# Altium schematic symbol library SCH - LOGIC - 74LVC1G332DCKRE4.SchLib: 1 symbol
Pins are listed as number, name and electrical type; pins without a type are passive.

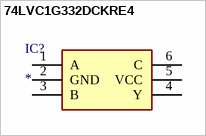
[diagram p0: symbol 74LVC1G332DCKRE4]

## 74LVC1G332DCKRE4
designator IC?
Integrated Circuit; Manufacturer_Name: Texas Instruments; Manufacturer_Part_Number: 74LVC1G332DCKRE4; Datasheet Link: http://www.ti.com/general/docs/suppproductinfo.tsp?distId=10&gotoUrl=http%3A%2F%2Fwww.ti.com%2Flit%2Fgpn%2Fsn74lvc1g332; Height: 1.1mm; Mouser Part Number: 595-74LVC1G332DCKRE4; Mouser Price/Stock: https://www.mouser.co.uk/ProductDetail/Texas-Instruments/74LVC1G332DCKRE4?qs=nqigI8dpoHIi7HwgmPCPpg%3D%3D; Arrow Part Number: 74LVC1G332DCKRE4; Arrow Price/Stock: https://www.arrow.com/en/products/74lvc1g332dckre4/texas-instruments?region=nac
footprint SOT65P210X110-6N
pins: 1 A, 2 GND, 3 B, 4 Y, 5 VCC, 6 C